# EAGLE library part 255-416-5 (library con-wago255)
WAGO
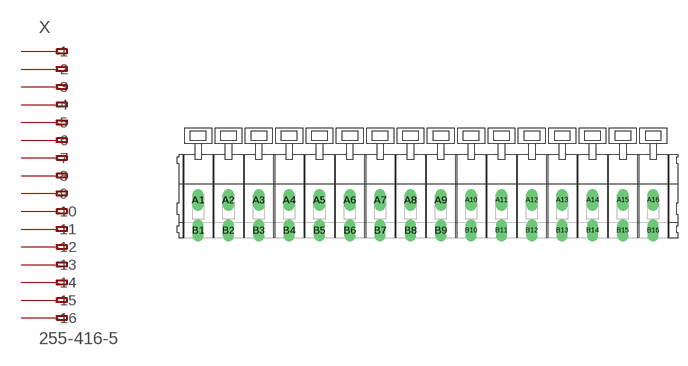
[diagram p87: symbol with the pads of 255-416-5; footprint 255-416-5]

Designator prefix X

## 255-416-5 (OC_FARNELL: unknown; OC_NEWARK: unknown)  [255-416-5]
A1  -1  pas
A2  -2  pas
A3  -3  pas
A4  -4  pas
A5  -5  pas
A6  -6  pas
A7  -7  pas
A8  -8  pas
A9  -9  pas
A10  -10  pas
A11  -11  pas
A12  -12  pas
A13  -13  pas
A14  -14  pas
A15  -15  pas
A16  -16  pas
B1  B-1  pas
B2  B-2  pas
B3  B-3  pas
B4  B-4  pas
B5  B-5  pas
B6  B-6  pas
B7  B-7  pas
B8  B-8  pas
B9  B-9  pas
B10  B-10  pas
B11  B-11  pas
B12  B-12  pas
B13  B-13  pas
B14  B-14  pas
B15  B-15  pas
B16  B-16  pas

## Footprint 255-416-5 (pad centres in mm)
Grid 5.0 mm
drill 1.2 long: A1 -37.5,0; A2 -32.5,0; A3 -27.5,0; A4 -22.5,0; A5 -17.5,0; A6 -12.5,0; A7 -7.5,0; A8 -2.5,0; A9 2.5,0; A10 7.5,0; A11 12.5,0; A12 17.5,0; A13 22.5,0; A14 27.5,0; A15 32.5,0; A16 37.5,0; B1 -37.5,-5; B2 -32.5,-5; B3 -27.5,-5; B4 -22.5,-5; B5 -17.5,-5; B6 -12.5,-5; B7 -7.5,-5; B8 -2.5,-5; B9 2.5,-5; B10 7.5,-5; B11 12.5,-5; B12 17.5,-5; B13 22.5,-5; B14 27.5,-5; B15 32.5,-5; B16 37.5,-5